# Altium schematic symbol library QUTMS_SDLibrary.SchLib: 1 symbol
Pins are listed as number, name and electrical type; pins without a type are passive.

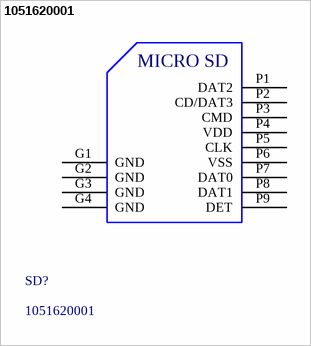
[diagram p0: symbol 1051620001]

## 1051620001
designator SD?
9 (8 + 1) Position Card Connector microSD™ Surface Mount, Right Angle Gold; ComponentLink1Description: Digikey; ComponentLink1URL: https://www.digikey.com.au/product-detail/en/molex/1051620001/WM14405CT-ND/6133135; ComponentLink2Description: Datasheet; ComponentLink2URL: https://www.molex.com/pdm_docs/sd/1051620001_sd.pdf
footprint 1051620001
pins: G1 GND, G2 GND, G3 GND, G4 GND, P1 DAT2, P2 CD/DAT3, P3 CMD, P4 VDD, P5 CLK, P6 VSS, P7 DAT0, P8 DAT1, P9 DET
text: MICRO SD